# EAGLE library part MAX9934TAUA (library MAX9934TAUA)
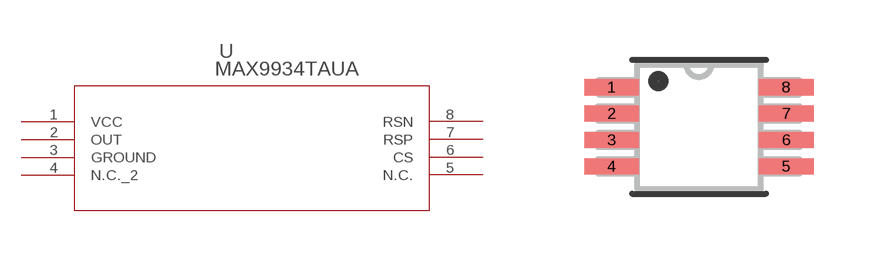
[diagram p0: symbol with the pads of 21-0036K; footprint 21-0036K]

Designator prefix U

## MAX9934TAUA (DESCRIPTION: Linear IC - Op-amp Maxim Integrated MAX9934TAUA+ Current sensor uMAX 8; DIGI-KEY_PART_NUMBER: MAX9934TAUA+-ND; DIGI-KEY_PURCHASE_URL: https://www.digikey.be/product-detail/en/maxim-integrated/MAX9934TAUA-/MAX9934TAUA--ND/2239130?utm_source=snapeda&utm_medium=aggregator&utm_campaign=symbol; MF: Maxim Integrated; MP: MAX9934TAUA+; PACKAGE: MSOP-8 Maxim Integrated)  [21-0036K]
1  VCC  pwr
2  OUT  out
3  GROUND  pwr
4  N.C._2  nc
5  N.C.  nc
6  CS  in
7  RSP  in
8  RSN  in

## Footprint 21-0036K (pad centres in mm)
smd 1.372 x 0.406: 1 -2.184,0.991; 2 -2.184,0.33; 3 -2.184,-0.33; 4 -2.184,-0.991; 5 2.184,-0.991; 6 2.184,-0.33; 7 2.184,0.33; 8 2.184,0.991